# EAGLE library part TPS7A4533_KTT_5 (library Texas Instruments)
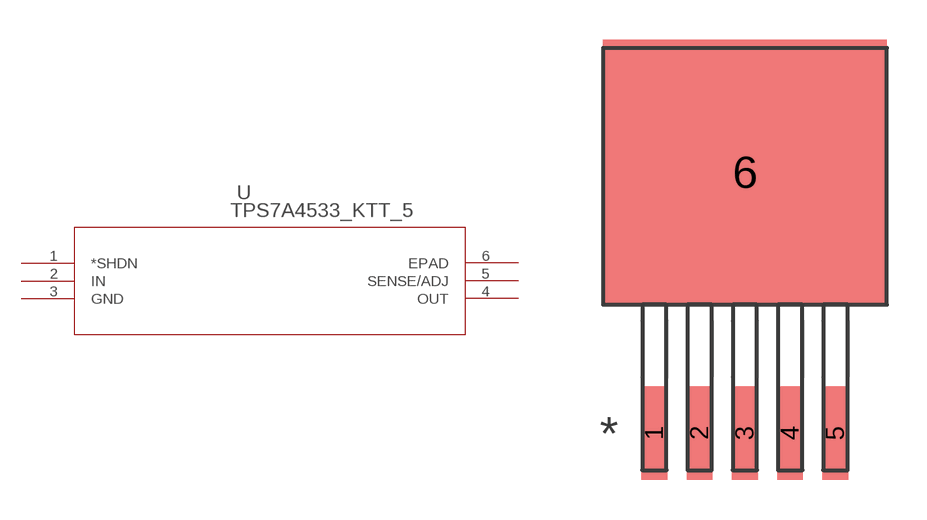
[diagram p29: symbol with the pads of KTT5_6P22X6P86; footprint KTT5_6P22X6P86]

Designator prefix U

## TPS7A4533_KTT_5 (DATASHEETURL: http://www.ti.com/lit/gpn/TPS7A4533; DESCRIPTION: Low-Noise Fast-Transient-Response 1.5-A LDO Regulator; FAMILY_NAME: SINGLE CHANNEL LDO; GENERIC_PART_NUMBER: TPS7A4533; INDUSTRY_STD_PKG_TYPE: DDPAK/TO-263; MANUFACTURER: Texas Instruments; MANUFACTURER_PART_NUMBER: tps7a4533_ktt_5; PACKAGE_DESIGNATOR: KTT; PIN_COUNT: 5; VENDOR: Texas Instruments)  [KTT5_6P22X6P86]
1  *SHDN  pas
2  IN  in
3  GND  pwr
4  OUT  out
5  SENSE/ADJ  pas
6  EPAD  pas

## Footprint KTT5_6P22X6P86 (pad centres in mm)
smd 0.965 x 3.505: 1 -3.4,-9.652; 2 -1.7,-9.652; 3 0,-9.652; 4 1.7,-9.652; 5 3.4,-9.652
smd 10.668 x 9.957: 6 0,0.152